# EAGLE library part L6902D (library L6902D)
L6902D, Switching Regulator, Buck Controller, 1A, Adjustable, 1.235 34 V, 275 kHz, 8-Pin SO Source: Datasheet <https://www.st.com/resource/en/datasheet/l6902.pdf>
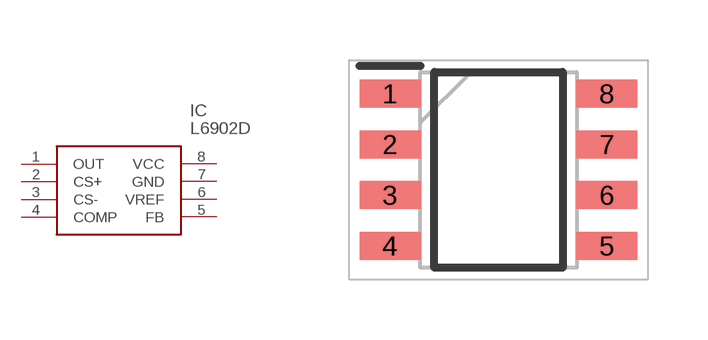
[diagram p0: symbol with the pads of SOIC127P600X175-8N; footprint SOIC127P600X175-8N]

Designator prefix IC

## L6902D (Description: L6902D, Switching Regulator, Buck Controller, 1A, Adjustable, 1.235 34 V, 275 kHz, 8-Pin SO; Height: 1.75mm; Manufacturer_Name: STMicroelectronics; Manufacturer_Part_Number: L6902D)  [SOIC127P600X175-8N]
1  OUT
2  CS+
3  CS-
4  COMP
5  FB
6  VREF
7  GND
8  VCC

## Footprint SOIC127P600X175-8N (pad centres in mm)
SO-8 batwing1
smd 1.525 x 0.7: 1 -2.712,1.905; 2 -2.712,0.635; 3 -2.712,-0.635; 4 -2.712,-1.905; 5 2.712,-1.905; 6 2.712,-0.635; 7 2.712,0.635; 8 2.712,1.905